# EAGLE library part SKY66112-11 (library SKY66112-11)
RF Front End Cnnctd Home/Wearable BLE+ZigBee Family Source: Datasheet <https://datasheet.datasheetarchive.com/originals/distributors/DKDS-19/379304.pdf>
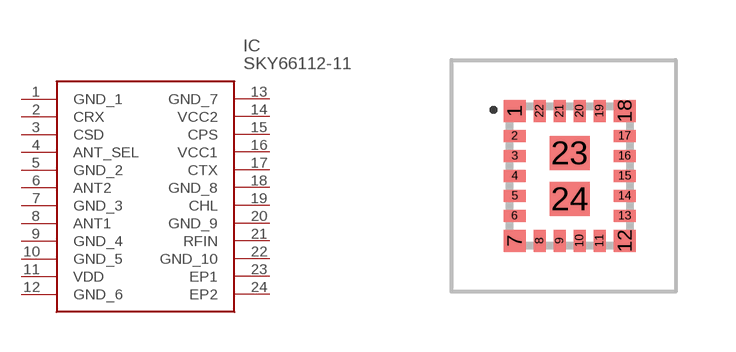
[diagram p0: symbol with the pads of SKY6611211; footprint SKY6611211]

Designator prefix IC

## SKY66112-11 (Description: RF Front End Cnnctd Home/Wearable BLE+ZigBee Family; Height: 1mm; Manufacturer_Name: Skyworks; Manufacturer_Part_Number: SKY66112-11; Mouser_Part_Number: 873-SKY66112-11; Mouser_Price-Stock: https://www.mouser.co.uk/ProductDetail/Skyworks-Solutions-Inc/SKY66112-11?qs=4FzvMsMEDja0u%2FwQhEjpuw%3D%3D)  [SKY6611211]
1  GND_1
2  CRX
3  CSD
4  ANT_SEL
5  GND_2
6  ANT2
7  GND_3
8  ANT1
9  GND_4
10  GND_5
11  VDD
12  GND_6
13  GND_7
14  VCC2
15  CPS
16  VCC1
17  CTX
18  GND_8
19  CHL
20  GND_9
21  RFIN
22  GND_10
23  EP1
24  EP2

## Footprint SKY6611211 (pad centres in mm)
SKY66112-11
smd 0.55 x 0.55: 1 -1.375,1.625; 7 -1.375,-1.625; 12 1.375,-1.625; 18 1.375,1.625
smd 0.55 x 0.3: 2 -1.375,1; 3 -1.375,0.5; 4 -1.375,0; 5 -1.375,-0.5; 6 -1.375,-1; 13 1.375,-1; 14 1.375,-0.5; 15 1.375,0; 16 1.375,0.5; 17 1.375,1
smd 0.3 x 0.55: 8 -0.75,-1.625; 9 -0.25,-1.625; 10 0.25,-1.625; 11 0.75,-1.625; 19 0.75,1.625; 20 0.25,1.625; 21 -0.25,1.625; 22 -0.75,1.625
smd 1 x 0.85: 23 0,0.575; 24 0,-0.575